# EAGLE library part HUMPRO900MHZ (library my library)
900mhz wireless transceiver
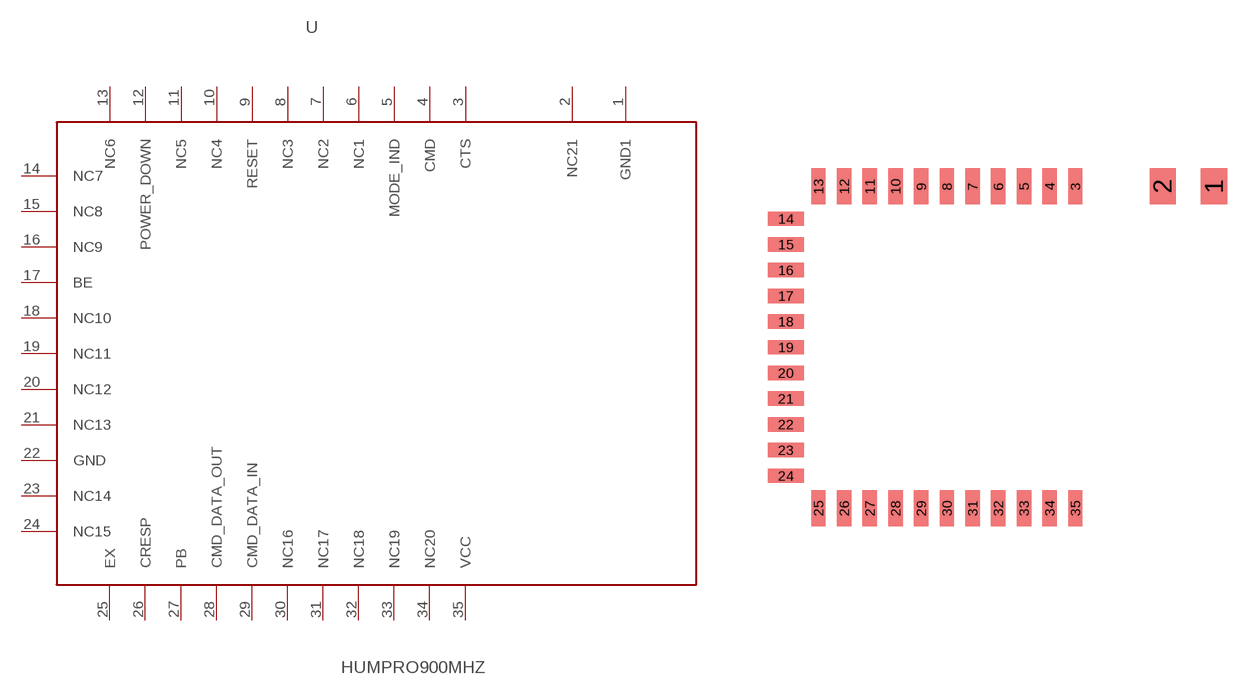
[diagram p7: symbol with the pads of WIRELESS-CAS; footprint WIRELESS-CAS]

Designator prefix -

## HUMPRO900MHZ  [WIRELESS-CAS]
1  GND1
2  NC21
3  CTS
4  CMD
5  MODE_IND
6  NC1
7  NC2
8  NC3
9  RESET
10  NC4
11  NC5
12  POWER_DOWN
13  NC6
14  NC7
15  NC8
16  NC9
17  BE
18  NC10
19  NC11
20  NC12
21  NC13
22  GND
23  NC14
24  NC15
25  EX
26  CRESP
27  PB
28  CMD_DATA_OUT
29  CMD_DATA_IN
30  NC16
31  NC17
32  NC18
33  NC19
34  NC20
35  VCC

## Footprint WIRELESS-CAS (pad centres in mm)
smd 1.295 x 1.778: 1 21.158,14.3; 2 18.618,14.3
smd 0.711 x 1.778: 3 14.3,14.3; 4 13.03,14.3; 5 11.76,14.3; 6 10.49,14.3; 7 9.22,14.3; 8 7.95,14.3; 9 6.68,14.3; 10 5.41,14.3; 11 4.14,14.3; 12 2.87,14.3; 13 1.6,14.3; 25 1.6,-1.6; 26 2.87,-1.6; 27 4.14,-1.6; 28 5.41,-1.6; 29 6.68,-1.6; 30 7.95,-1.6; 31 9.22,-1.6; 32 10.49,-1.6; 33 11.76,-1.6; 34 13.03,-1.6; 35 14.3,-1.6
smd 1.778 x 0.711: 14 0,12.7; 15 0,11.43; 16 0,10.16; 17 0,8.89; 18 0,7.62; 19 0,6.35; 20 0,5.08; 21 0,3.81; 22 0,2.54; 23 0,1.27; 24 0,0